# EAGLE library part JUMBOLED (library Custom)
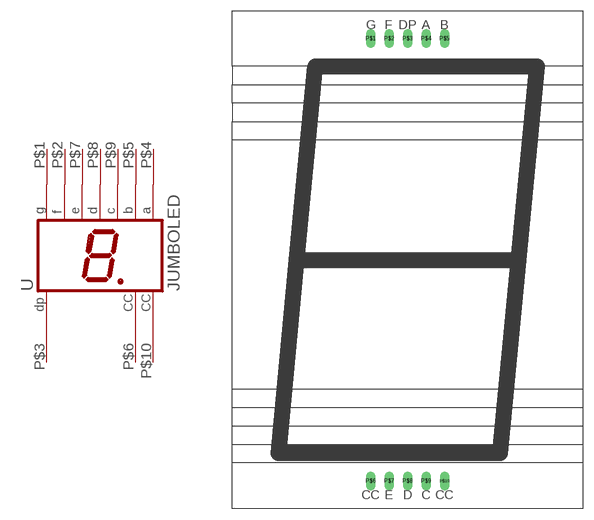
[diagram p0: symbol with the pads of JUMBOLED; footprint JUMBOLED]

Designator prefix -

## JUMBOLED  [JUMBOLED]
P$1  G  pas
P$2  F  pas
P$3  DP  pas
P$4  A  pas
P$5  B  pas
P$6  CC  pas
P$7  E  pas
P$8  D  pas
P$9  C  pas
P$10  CC  pas

## Footprint JUMBOLED (pad centres in mm)
drill 0.813 long: P$1 -5.08,30.48; P$2 -2.54,30.48; P$3 0,30.48; P$4 2.54,30.48; P$5 5.08,30.48; P$6 -5.08,-30.48; P$7 -2.54,-30.48; P$8 0,-30.48; P$9 2.54,-30.48; P$10 5.08,-30.48